# EAGLE library part TPS782XX (library firefly)
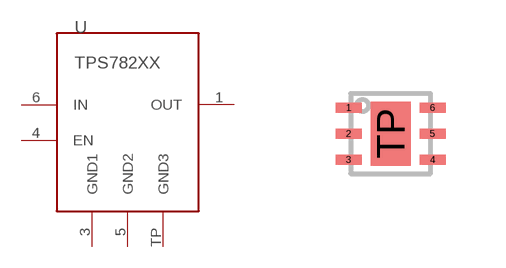
[diagram p10: symbol with the pads of S-PWSON-N6; footprint S-PWSON-N6]

Designator prefix -

## TPS782XX  [S-PWSON-N6]
1  OUT
3  GND1
4  EN
5  GND2
6  IN
TP  GND3

## Footprint S-PWSON-N6 (pad centres in mm)
smd 0.65 x 0.25: 1 -1.05,0.65; 2 -1.05,0; 3 -1.05,-0.65; 4 1.05,-0.65; 5 1.05,0; 6 1.05,0.65
smd 1 x 1.6: TP 0,0